# EAGLE library part AD8231 (library SpecialIC)
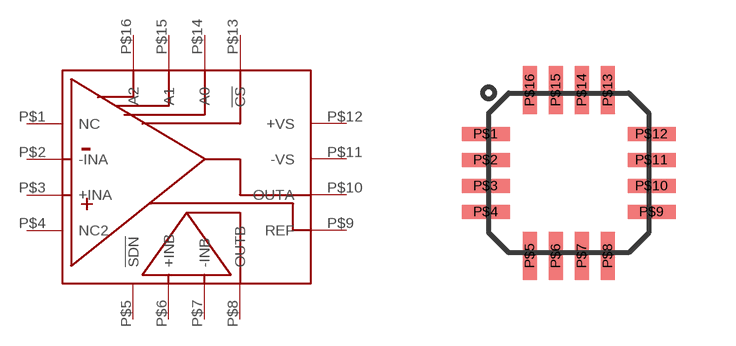
[diagram p2: symbol with the pads of LFCSP_16; footprint LFCSP_16]

Designator prefix -

## AD8231 (PLACE_PART: YES)  [LFCSP_16]
P$1  NC
P$2  -INA
P$3  +INA
P$4  NC2
P$5  !SDN
P$6  +INB
P$7  -INB
P$8  OUTB
P$9  REF
P$10  OUTA
P$11  -VS
P$12  +VS
P$13  !CS
P$14  A0
P$15  A1
P$16  A2

## Footprint LFCSP_16 (pad centres in mm)
smd 1.2 x 0.35: P$1 -2.075,0.975; P$2 -2.075,0.325; P$3 -2.075,-0.325; P$4 -2.075,-0.975; P$9 2.075,-0.975; P$10 2.075,-0.325; P$11 2.075,0.325; P$12 2.075,0.975
smd 0.35 x 1.2: P$5 -0.975,-2.075; P$6 -0.325,-2.075; P$7 0.325,-2.075; P$8 0.975,-2.075; P$13 0.975,2.075; P$14 0.325,2.075; P$15 -0.325,2.075; P$16 -0.975,2.075